# EAGLE library part DIP8PIN (library mtoriginal)
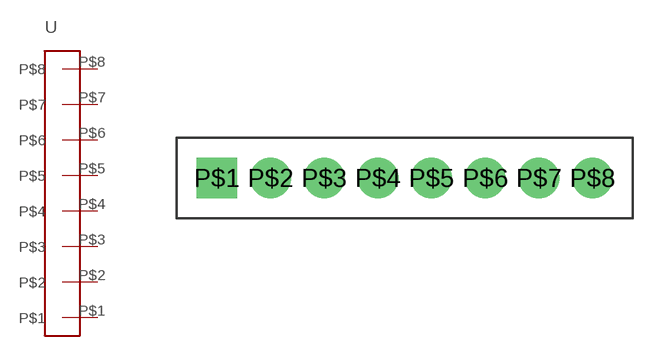
[diagram p0: symbol with the pads of DIP8PIN; footprint DIP8PIN]

Designator prefix -

## DIP8PIN  [DIP8PIN]
P$1  P$1
P$2  P$2
P$3  P$3
P$4  P$4
P$5  P$5
P$6  P$6
P$7  P$7
P$8  P$8

## Footprint DIP8PIN (pad centres in mm)
drill 1 pad 1.93 square: P$1 0,0
drill 1 pad 1.93: P$2 2.54,0; P$3 5.08,0; P$4 7.62,0; P$5 10.16,0; P$6 12.7,0; P$7 15.24,0; P$8 17.78,0